# EAGLE library part MOLEX-52465-1029 (library gwu_mpnl_ucat_v10)
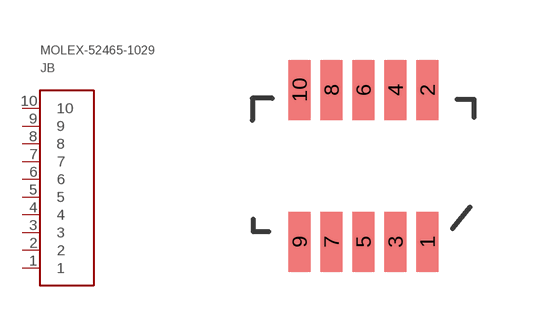
[diagram p19: symbol with the pads of MOLEX-52465-1029; footprint MOLEX-52465-1029]

Designator prefix JB

## MOLEX-52465-1029  [MOLEX-52465-1029]
1  1
2  2
3  3
4  4
5  5
6  6
7  7
8  8
9  9
10  10

## Footprint MOLEX-52465-1029 (pad centres in mm)
smd 0.55 x 1.5: 1 1.6,-1.9; 2 1.6,1.9; 3 0.8,-1.9; 4 0.8,1.9; 5 0,-1.9; 6 0,1.9; 7 -0.8,-1.9; 8 -0.8,1.9; 9 -1.6,-1.9; 10 -1.6,1.9